# Altium integrated library Connectors Terminal.IntLib: 5 symbols
Pins are listed as number, name and electrical type; pins without a type are passive.

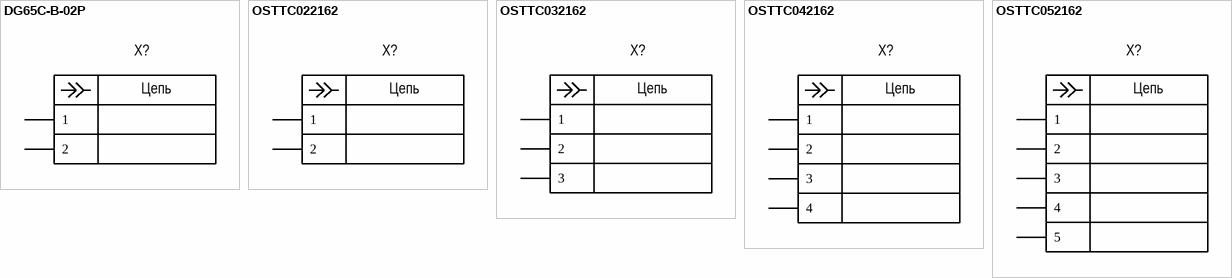
[diagram p0: symbols DG65C-B-02P to OSTTC052162]

## DG65C-B-02P
designator X?  (value not drawn)
Connector Terminal Block 2P; Group: Mechanical; Pitch: 10.00mm; Positions: 2; Rows: 1; Current rating: 20A; Voltage rating: 300V; Wire Gauge: 14-22 AWG; Dimension: 0.00mm x 0.00mm; Operating temperature: -30°C +105°C; Mounting type: Through hole; Package: DG65C-B-02P; Part name: DG65C-B-02P; Height: 0.00mm; Insulation color: Blue; Component: Connector Terminal; Contact type: Terminal Block; System: Connector
footprint DG65C-B-02P
pins: 1, 2
text: Цепь

## OSTTC022162
designator X?  (value not drawn)
Connector Terminal 2PH 5.08; Manufacturer: On Shore Technology; Group: Mechanical; Pitch: 5.08mm; Positions: 2; Rows: 1; Current rating: 15A; Voltage rating: 300V; Wire Gauge: 14-22 AWG; Dimension: 11.20mm x 7.50mm; Operating temperature: -30°C +105°C; Mounting type: Through hole; Package: OSTTC022162; Part name: OSTTC022162; Height: 10.00mm; Insulation color: Blue; Component: Connector Terminal; Contact type: Terminal; System: Connector
footprint CON_TERM_WFH5.08-2P
pins: 1, 2
text: Цепь

## OSTTC032162
designator X?  (value not drawn)
Connector Terminal 3PH 5.08; Manufacturer: On Shore Technology; Group: Mechanical; Pitch: 5.08mm; Positions: 3; Rows: 1; Current rating: 15A; Voltage rating: 300V; Wire Gauge: 14-22 AWG; Dimension: 16.20mm x 7.50mm; Operating temperature: -30°C +105°C; Mounting type: Through hole; Package: OSTTC032162; Part name: OSTTC032162; Height: 10.00mm; Insulation color: Blue; Component: Connector Terminal; Contact type: Terminal; System: Connector
footprint CON_TERM_WFH5.08-3P
pins: 1, 2, 3
text: Цепь

## OSTTC042162
designator X?  (value not drawn)
Connector Terminal 4PH 5.08; Manufacturer: On Shore Technology; Group: Mechanical; Pitch: 5.08mm; Positions: 4; Rows: 1; Current rating: 15A; Voltage rating: 300V; Wire Gauge: 14-22 AWG; Dimension: 21.20mm x 7.50mm; Operating temperature: -30°C +105°C; Mounting type: Through hole; Package: OSTTC042162; Part name: OSTTC042162; Height: 10.00mm; Insulation color: Blue; Component: Connector Terminal; Contact type: Terminal; System: Connector
footprint CON_TERM_WFH5.08-4P
pins: 1, 2, 3, 4
text: Цепь

## OSTTC052162
designator X?  (value not drawn)
Connector Terminal 5PH 5.08; Manufacturer: On Shore Technology; Group: Mechanical; Pitch: 5.08mm; Positions: 5; Rows: 1; Current rating: 15A; Voltage rating: 300V; Wire Gauge: 14-22 AWG; Dimension: 26.20mm x 7.50mm; Operating temperature: -30°C +105°C; Mounting type: Through hole; Package: OSTTC052162; Part name: OSTTC052162; Height: 10.00mm; Insulation color: Blue; Component: Connector Terminal; Contact type: Terminal; System: Connector
footprint CON_TERM_WFH5.08-5P
pins: 1, 2, 3, 4, 5
text: Цепь